# EAGLE library part LEVELSHIFTER (library components)
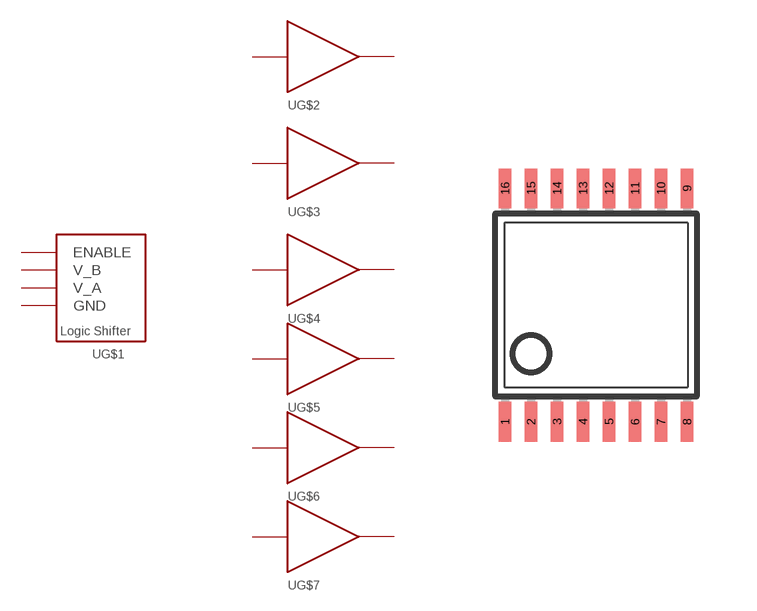
[diagram p4: symbol with the pads of TSSOP16; footprint TSSOP16]

Designator prefix -; gates G$1=LVL-SHIFT-PWR G$2=LVL-SHIFT G$3=LVL-SHIFT G$4=LVL-SHIFT G$5=LVL-SHIFT G$6=LVL-SHIFT G$7=LVL-SHIFT

## LEVELSHIFTER  [TSSOP16]
1  G$1:GND  pwr
2  G$1:V_A  pwr
3  G$2:A
4  G$3:A
5  G$4:A
6  G$5:A
7  G$6:A
8  G$7:A
9  G$7:B
10  G$6:B
11  G$5:B
12  G$4:B
13  G$3:B
14  G$2:B
15  G$1:V_B  pwr
16  G$1:ENABLE  in

## Footprint TSSOP16 (pad centres in mm)
Thin Shrink Small Outline Plastic 16 MAX3223-MAX3243.pdf
smd 0.305 x 0.991: 1 -2.275,-2.918; 2 -1.625,-2.918; 3 -0.975,-2.918; 4 -0.325,-2.918; 5 0.325,-2.918; 6 0.975,-2.918; 7 1.625,-2.918; 8 2.275,-2.918; 9 2.275,2.918; 10 1.625,2.918; 11 0.975,2.918; 12 0.325,2.918; 13 -0.325,2.918; 14 -0.975,2.918; 15 -1.625,2.918; 16 -2.275,2.918